# EAGLE library part MPL3115A2 (library sensors)
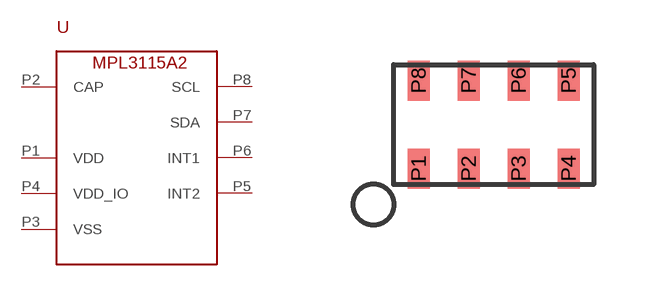
[diagram p2: symbol with the pads of LGA_3X5_8; footprint LGA_3X5_8]

Designator prefix -

## MPL3115A2  [LGA_3X5_8]
P1  VDD  pwr
P2  CAP  pwr
P3  VSS  pwr
P4  VDD_IO  pwr
P5  INT2  out
P6  INT1  out
P7  SDA
P8  SCL  in

## Footprint LGA_3X5_8 (pad centres in mm)
smd 0.55 x 1: P1 -1.875,-1.1; P2 -0.625,-1.1; P3 0.625,-1.1; P4 1.875,-1.1; P5 1.875,1.1; P6 0.625,1.1; P7 -0.625,1.1; P8 -1.875,1.1